# Altium integrated library RSX_ICs.IntLib: 15 symbols
Pins are listed as number, name and electrical type; pins without a type are passive.

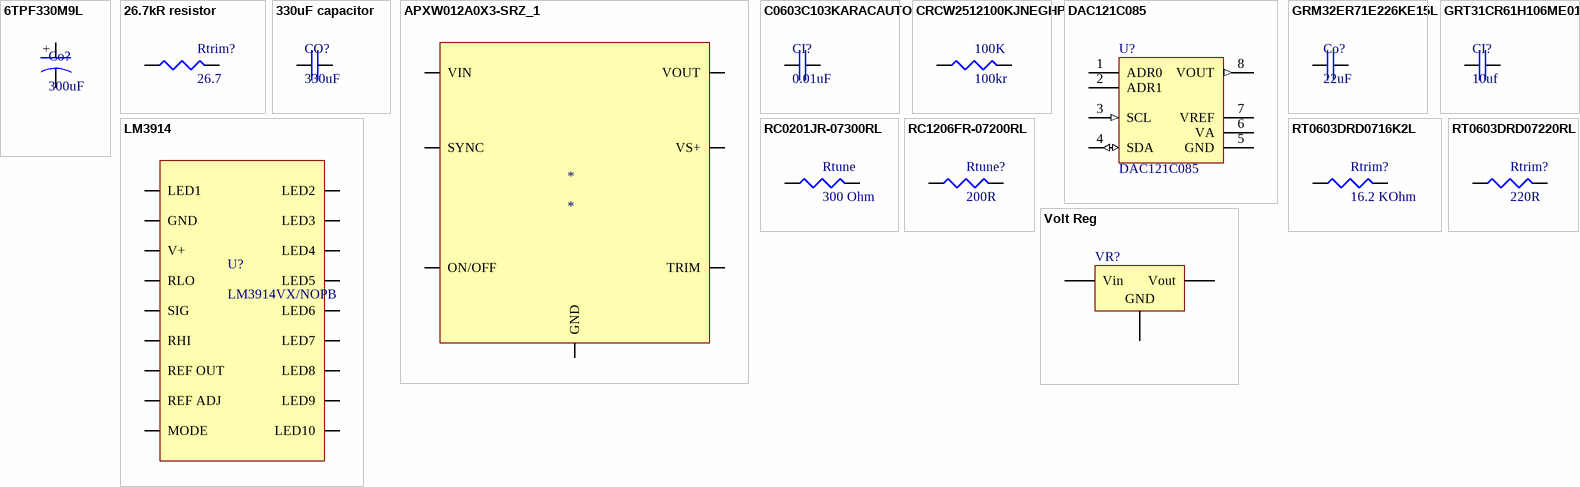
[diagram p0: symbols 6TPF330M9L to Volt Reg]

## 6TPF330M9L
designator Co?, comment 300uF
PANASONIC - 6TPF330M9L - CAP, TANT, POLYMER, 330UF, 6.3V/CASE D3L; Tolerance: 20%; ESR (Equivalent Series Resistance): 9mR; Polarity: Polar; Dissipation Factor: 10%; Voltage Rating: 6.3V; Ripple Current: 3.9A; Leakage Current: 207.9uA; Supplier 1: Digi-Key; Supplier Part Number 1: P16258CT-ND; Manufacturer 1: Panasonic; Manufacturer Part Number 1: 6TPF330M9L; Stock 1: 31667; Pricing 1: 1=2,38000, 10=1,92600, 100=1,47070, 500=1,12056, 1000=1,01551 (USD); RoHS: Yes; Mount: Surface Mount; Case/Package: 2917; Case Code (Metric): 7343; Case Code (Imperial): 2917; Material: Polymer; Min Operating Temperature: -55°C; Max Operating Temperature: 105°C; Capacitance: 330uF; Packaging: Tape and Reel; Package Quantity: 2500; Voltage Rating (DC): 6.3V; Termination: SMD/SMT; Voltage: 6.3V; Features: General Purpose; Length: 7.3mm; Height: 2.8mm; Depth: 4.3mm; Width: 4.3mm; Height - Seated (Max): 0.118inch; Radiation Hardening: No; REACH SVHC: No SVHC; Lead Free: Lead Free; ComponentLink1URL: https://datasheet.ciiva.com/26840/getdatasheetpartid-733767-26840943.pdf?src-supplier=Verical; ComponentLink1Description: https://datasheet.ciiva.com/26840/getdatasheetpartid-733767-26840943.pdf?src-supplier=Verical; ComponentLink2URL: https://datasheet.ciiva.com/48675/aaa8000ce10-48675031.pdf?src-supplier=Avnet; ComponentLink2Description: https://datasheet.ciiva.com/48675/aaa8000ce10-48675031.pdf?src-supplier=Avnet; ComponentLink3URL: https://datasheet.ciiva.com/24450/e100-24450360.pdf?src-supplier=Onlinecomponents.com; ComponentLink3Description: https://datasheet.ciiva.com/24450/e100-24450360.pdf?src-supplier=Onlinecomponents.com; ComponentLink4URL: https://datasheet.ciiva.com/25786/1734364-25786126.pdf?src-supplier=Farnell; ComponentLink4Description: https://datasheet.ciiva.com/25786/1734364-25786126.pdf?src-supplier=Farnell; ComponentLink5URL: https://datasheet.ciiva.com/41442/001179781-da-01-en-tantal-kond-6-3vdc-330uf-9mr-734328-41442556.pdf?src-supplier=Conrad; ComponentLink5Description: https://datasheet.ciiva.com/41442/001179781-da-01-en-tantal-kond-6-3vdc-330uf-9mr-734328-41442556.pdf?src-supplier=Conrad; Category: Capacitor
pins: 14, +

## 26.7kR resistor
designator Rtrim?, comment 26.7
RES 26.7K OHM 0.6W 1% AXIAL; Manufacturer 1: Vishay BCcomponents; Manufacturer Part Number 1: MRS25000C2672FRP00; Resistance: 26.7kR; Power Rating: 600mW; Temperature Coefficient: 50ppm/°C; Voltage Rating: 350V; Lead Diameter: 0.6mm; Supplier 1: Digi-Key; Supplier Part Number 1: PPC26.7KZCT-ND; Stock 1: 9256; Pricing 1: 1=0,29000, 10=0,24200, 25=0,17600, 50=0,12760, 100=0,09460, 250=0,07260, 500=0,05720, 1000=0,03960 (USD); RoHS: Yes; Mount: Through Hole; Case/Package: Axial; Contact Plating: Tin; Min Operating Temperature: -55°C; Max Operating Temperature: 155°C; Tolerance: 1%; Package Quantity: 1; Packaging: Tape and Reel; Termination: Axial; Composition: Thin Film,Metal Film; Number of Terminations: 2; Max Power Dissipation: 600mW; Diameter: 2.5mm; Length: 6.5mm; Width: 2.5mm; Radiation Hardening: No; Lead Free: Lead Free; ComponentLink1URL: https://datasheet.ciiva.com/2710/mrs16m25-2710936.pdf?src-supplier=Digi-Key; ComponentLink1Description: https://datasheet.ciiva.com/2710/mrs16m25-2710936.pdf?src-supplier=Digi-Key; ComponentLink2URL: https://datasheet.ciiva.com/2710/mrs16m25-2710937.pdf?src-supplier=Digi-Key; ComponentLink2Description: https://datasheet.ciiva.com/2710/mrs16m25-2710937.pdf?src-supplier=Digi-Key; ComponentLink3URL: https://datasheet.ciiva.com/8399/mrs16m25-8399150.pdf?src-supplier=Avnet; ComponentLink3Description: https://datasheet.ciiva.com/8399/mrs16m25-8399150.pdf?src-supplier=Avnet
pins: 11, 12

## 330uF capacitor
designator CO?, comment 330uF
MURATA - GRM32ER60E337ME05L - CAP, 330µF, 2.5V, 20%, X5R, 1210; Supplier 1: Digi-Key; Supplier Part Number 1: 490-13974-1-ND; Manufacturer 1: Murata; Manufacturer Part Number 1: GRM32ER60E337ME05L; Stock 1: 5051; Pricing 1: 1=2,08000, 10=1,67800, 100=1,28160, 500=0,97648 (USD); RoHS: Yes; Mount: Surface Mount; Case/Package: 1210; Case Code (Metric): 3225; Case Code (Imperial): 1210; Min Operating Temperature: -55°C; Max Operating Temperature: 85°C; Packaging: Tape and Reel; Capacitance: 330uF; Voltage Rating: 2.5V; Tolerance: 20%; Voltage Rating (DC): 2.5V; Dielectric: X5R; Length: 0.126inch; Width: 0.098inch; Thickness: 0.11inch; ComponentLink1URL: http://www.farnell.com/datasheets/2165383.pdf?src-supplier=Farnell; ComponentLink1Description: http://www.farnell.com/datasheets/2165383.pdf?src-supplier=Farnell; ComponentLink2URL: http://search.murata.co.jp/Ceramy/image/img/A01X/partnumbering_e_01.pdf?src-supplier=Digi-Key; ComponentLink2Description: http://search.murata.co.jp/Ceramy/image/img/A01X/partnumbering_e_01.pdf?src-supplier=Digi-Key; ComponentLink3URL: http://search.murata.co.jp/Ceramy/image/img/A01X/G101/ENG/GRM32ER60E337ME05-01.pdf?src-supplier=Digi-Key; ComponentLink3Description: http://search.murata.co.jp/Ceramy/image/img/A01X/G101/ENG/GRM32ER60E337ME05-01.pdf?src-supplier=Digi-Key; Category: Capacitor
pins: 15, 16

## APXW012A0X3-SRZ_1
designator *
DC DC CONVERTER 3-18V 12A; Manufacturer 1: GE; Manufacturer Part Number 1: APXW012A0X3-SRZ; Number of Outputs: 1; Min Input Voltage: 9V; Max Input Voltage: 36V; Voltage - Output 1: 18V; Efficiency: 95.5%; Supplier 1: Avnet; Supplier Part Number 1: 150028492; Stock 1: 0; RoHS: Yes; Mount: Surface Mount; Case/Package: Module; Number of Pins: 9; Min Operating Temperature: -40°C; Max Operating Temperature: 85°C; Packaging: Tape and Reel; Max Output Current: 12A; Current - Output 1: 12A; Package Quantity: 140; Output Current: 12A; Output Voltage: 18V; Features: OCP,OTP; Length: 1.3inch; Height: 0.39inch; Width: 0.53inch; ComponentLink1URL: http://apps.geindustrial.com/publibrary/checkout/DS-APXW012?TNR=Data%20Sheets&src-supplier=Avnet; ComponentLink1Description: http://apps.geindustrial.com/publibrary/checkout/DS-APXW012?TNR=Data%20Sheets&src-supplier=Avnet; ComponentLink2URL: http://apps.geindustrial.com/publibrary/checkout/DS-APXW012?TNR=Data%20Sheets|DS-APXW012|generic&src-supplier=Digi-Key; ComponentLink2Description: http://apps.geindustrial.com/publibrary/checkout/DS-APXW012?TNR=Data%20Sheets|DS-APXW012|generic&src-supplier=Digi-Key; ComponentLink3URL: http://apps.geindustrial.com/publibrary/checkout/DS-APXW012?TNR=Data%20Sheets%7CDS-APXW012%7Cgeneric&src-supplier=Mouser; ComponentLink3Description: http://apps.geindustrial.com/publibrary/checkout/DS-APXW012?TNR=Data%20Sheets%7CDS-APXW012%7Cgeneric&src-supplier=Mouser; Category: Buck Converter
pins: 4 VIN, 5 SYNC, 6 ON/OFF, 7 VOUT, 8 VS+, 9 TRIM, 10 GND

## C0603C103KARACAUTO
designator CI?, comment 0.01uF
Cap Ceramic 0.01uF 250V X7R 10% Pad SMD 0603 125C Automotive T/R; Manufacturer 1: KEMET; Manufacturer Part Number 1: C0603C103KARACAUTO; Capacitance: 10nF; Supplier 1: Digi-Key; Supplier Part Number 1: 399-17960-1-ND; Stock 1: 8483; Pricing 1: 1=0,90000, 10=0,68500, 100=0,49040, 500=0,37964, 1000=0,32691 (USD); RoHS: No; Mount: Surface Mount; Case/Package: 0603; Case Code (Imperial): 0603; Case Code (Metric): 1608; Min Operating Temperature: -55°C; Max Operating Temperature: 125°C; Packaging: Tape and Reel; Tolerance: 10%; Voltage Rating: 250V; Ratings: AEC-Q200; ComponentLink1URL: https://api.kemet.com/component-edge/download/datasheet/C0603C103KARACAUTO.pdf?src-supplier=Digi-Key; ComponentLink1Description: https://api.kemet.com/component-edge/download/datasheet/C0603C103KARACAUTO.pdf?src-supplier=Digi-Key; Category: Capacitor
pins: 15, 16

## CRCW2512100KJNEGHP
designator 100K, comment 100kr
RES SMD 100K OHM 5% 1.5W 2512; Manufacturer 1: Vishay Dale; Manufacturer Part Number 1: CRCW2512100KJNEGHP; Voltage Rating: 500V; Temperature Coefficient: 200ppm/°C; Supplier 1: Digi-Key; Supplier Part Number 1: 541-100KRACT-ND; Stock 1: 229705; Pricing 1: 1=0,75000, 10=0,55200, 100=0,32130, 1000=0,18016 (USD); RoHS: Yes; Case/Package: 2512; Weight: 0.001482oz; Case Code (Metric): 6432; Case Code (Imperial): 2512; Contact Plating: Tin; Min Operating Temperature: -55°C; Max Operating Temperature: 155°C; Power Rating: 1.5W; Tolerance: 5%; Resistance: 100kR; Packaging: Tape and Reel; Package Quantity: 1; Composition: Thick Film; Number of Terminations: 2; Termination: SMD/SMT; Max Power Dissipation: 1.5W; Features: Automotive AEC-Q200; Length: 0.248inch; Height: 0.028inch; Width: 0.124inch; Radiation Hardening: No; Lead Free: Lead Free; ComponentLink1URL: https://datasheet.ciiva.com/2483/crcwhpe3-2483163.pdf?src-supplier=Digi-Key; ComponentLink1Description: https://datasheet.ciiva.com/2483/crcwhpe3-2483163.pdf?src-supplier=Digi-Key; ComponentLink2URL: https://datasheet.ciiva.com/2483/crcwhpe3-2483164.pdf?src-supplier=Digi-Key; ComponentLink2Description: https://datasheet.ciiva.com/2483/crcwhpe3-2483164.pdf?src-supplier=Digi-Key; ComponentLink3URL: https://datasheet.ciiva.com/5545/crcwhpe3-46056-5545996.pdf?src-supplier=Mouser; ComponentLink3Description: https://datasheet.ciiva.com/5545/crcwhpe3-46056-5545996.pdf?src-supplier=Mouser; ComponentLink4URL: https://datasheet.ciiva.com/8982/crcwhpe3-8982492.pdf?src-supplier=Avnet; ComponentLink4Description: https://datasheet.ciiva.com/8982/crcwhpe3-8982492.pdf?src-supplier=Avnet; ComponentLink5URL: https://datasheet.ciiva.com/2483/crcwhpe3-2483165.pdf?src-supplier=Digi-Key; ComponentLink5Description: https://datasheet.ciiva.com/2483/crcwhpe3-2483165.pdf?src-supplier=Digi-Key; Category: Resistor
pins: 11, 12

## DAC121C085
designator U?
12-Bit Micro Power Digital-to-Analog Converter with an I2C-Compatible Interface and External Reference, 8-pin Mini SOIC, Pb-Free; Manufacturer: National Semiconductor; PackageTopMarking: XTT*X90C; PowerWise: Y; CompType: D/A Converter; ComponentLink3URL: http://www.national.com/packaging/folders/mua08a.html; ComponentLink2URL: http://www.national.com/pf/DA/DAC121C085.html; Code_JEDEC: MO-187-AA; ComponentLink1URL: http://www.national.com/ds/DA/DAC121C085.pdf; RoHS: Y; PackageVersion: revF, Apr-2008; PackageDescription: MINI SOIC, .118 x .118 x .034in, 8 Lead, .0256in Pitch; PackageReference: MUA08A; PinCount: 8; DatasheetVersion: Mar-2008; ComponentLink1Description: DAC121C085 Datasheet; ComponentLink2Description: DAC121C085 Web Page; ComponentLink3Description: MUA08A Package Page; RevisionNote: Component URLs added
footprint MUA08A_L (TSOP, 8-Leads, Body 3x3mm, Pitch 0.65mm, IPC High Density)
pins: 1 ADR0 (hiz), 2 ADR1 (hiz), 3 SCL (in), 4 SDA (io), 5 GND (power), 6 VA (power), 7 VREF (power), 8 VOUT (out)

## GRM32ER71E226KE15L
designator Co?, comment 22uF
Cap Ceramic 22uF 25V X7R 10% SMD 1210 125C Embossed T/R; Manufacturer 1: Murata; Manufacturer Part Number 1: GRM32ER71E226KE15L; Supplier 1: Digi-Key; Supplier Part Number 1: 490-5313-6-ND; Stock 1: 52660; Pricing 1: 1=1,78000, 10=1,40600, 100=1,05410, 500=0,79646 (USD); RoHS: Yes; Mount: Surface Mount; Case/Package: 1210; Number of Pins: 2; Case Code (Metric): 3225; Case Code (Imperial): 1210; Material: Ceramic; Min Operating Temperature: -55°C; Max Operating Temperature: 125°C; Capacitance: 22uF; Tolerance: 10%; Dielectric: X7R; Voltage Rating: 25V; Packaging: Tape and Reel; Package Quantity: 1; Voltage Rating (DC): 25V; Termination: SMD/SMT; Voltage: 25V; Length: 3.2mm; Height: 2.5mm; Width: 0.098inch; Thickness: 0.106inch; Depth: 2.5mm; Radiation Hardening: No; REACH SVHC: No SVHC; Lead Free: Lead Free; ComponentLink1URL: https://datasheet.ciiva.com/6072/1697714-6072768.pdf?src-supplier=Farnell; ComponentLink1Description: https://datasheet.ciiva.com/6072/1697714-6072768.pdf?src-supplier=Farnell; ComponentLink2URL: https://datasheet.ciiva.com/16497/product-16497009.pdf?src-supplier=Future+Electronics; ComponentLink2Description: https://datasheet.ciiva.com/16497/product-16497009.pdf?src-supplier=Future+Electronics; ComponentLink3URL: https://datasheet.ciiva.com/3776/2741grm32er71e226ke1523-3776996.pdf?src-supplier=Arrow; ComponentLink3Description: https://datasheet.ciiva.com/3776/2741grm32er71e226ke1523-3776996.pdf?src-supplier=Arrow; ComponentLink4URL: https://datasheet.ciiva.com/11789/0900766b80ef921d-11789129.pdf?src-supplier=RSComponents; ComponentLink4Description: https://datasheet.ciiva.com/11789/0900766b80ef921d-11789129.pdf?src-supplier=RSComponents; ComponentLink5URL: https://datasheet.ciiva.com/29201/451826-da-01-de-vs-kondens-grm32-er71e-226ke15l-29201795.pdf?src-supplier=Conrad; ComponentLink5Description: https://datasheet.ciiva.com/29201/451826-da-01-de-vs-kondens-grm32-er71e-226ke15l-29201795.pdf?src-supplier=Conrad; ComponentLink6URL: https://datasheet.ciiva.com/175/partnumbering-e-01-175746.pdf?src-supplier=Digi-Key; ComponentLink6Description: https://datasheet.ciiva.com/175/partnumbering-e-01-175746.pdf?src-supplier=Digi-Key; ComponentLink7URL: https://datasheet.ciiva.com/175/partnumbering-e-01-175747.pdf?src-supplier=Digi-Key; ComponentLink7Description: https://datasheet.ciiva.com/175/partnumbering-e-01-175747.pdf?src-supplier=Digi-Key; ComponentLink8URL: https://datasheet.ciiva.com/175/partnumbering-e-01-175748.pdf?src-supplier=Digi-Key; ComponentLink8Description: https://datasheet.ciiva.com/175/partnumbering-e-01-175748.pdf?src-supplier=Digi-Key; ComponentLink9URL: https://datasheet.ciiva.com/22703/1697714-22703397.pdf?src-supplier=Element14; ComponentLink9Description: https://datasheet.ciiva.com/22703/1697714-22703397.pdf?src-supplier=Element14; Category: Capacitor
pins: 15, 16

## GRT31CR61H106ME01L
designator CI?, comment 10uf
CAP CER 10UF 50V X5R 1206; Manufacturer 1: Murata; Manufacturer Part Number 1: GRT31CR61H106ME01L; Tolerance: 20%; Supplier 1: Digi-Key; Supplier Part Number 1: 490-12457-1-ND; Stock 1: 8159; Pricing 1: 1=0,50000, 10=0,34900, 100=0,20920, 500=0,15690, 1000=0,13249 (USD); RoHS: Yes; Mount: Surface Mount; Case/Package: 1206; Case Code (Metric): 3216; Case Code (Imperial): 1206; Min Operating Temperature: -55°C; Max Operating Temperature: 85°C; Packaging: Tape and Reel; Capacitance: 10uF; Voltage Rating: 50V; Length: 0.126inch; Width: 0.063inch; Thickness: 0.071inch; Ratings: AEC-Q200; ComponentLink1URL: http://search.murata.co.jp/Ceramy/image/img/A01X/G101/ENG/GRT31CR61H106ME01-01.pdf?src-supplier=Digi-Key; ComponentLink1Description: http://search.murata.co.jp/Ceramy/image/img/A01X/G101/ENG/GRT31CR61H106ME01-01.pdf?src-supplier=Digi-Key; Category: Capacitor
pins: 15, 16

## LM3914
designator U?, comment LM3914VX/NOPB
footprint PLCC127P990X990X457-20N (Leaded Chip Carrier, 20-Leads, Body 9.91x9.91mm, Pitch 1.270mm, IPC Medium Density)
pins: 1 LED1, 2 GND, 3 V+, 4 RLO, 5 SIG, 6 RHI, 7 REF OUT, 8 REF ADJ, 9 MODE, 10 LED10, 11 LED9, 12 LED8, 13 LED7, 14 LED6, 15 LED5, 16 LED4, 17 LED3, 18 LED2

## RC0201JR-07300RL
designator Rtune, comment 300 Ohm
RES SMD 300 OHM 5% 1/20W 0201; Manufacturer 1: Yageo; Manufacturer Part Number 1: RC0201JR-07300RL; Resistance: 300R; Power Rating: 50mW; Voltage Rating: 25V; Temperature Coefficient: 200ppm/°C; Supplier 1: Digi-Key; Supplier Part Number 1: 311-300NCT-ND; Stock 1: 301034; Pricing 1: 1=0,10000, 10=0,02800, 100=0,01150, 1000=0,00517, 2500=0,00448, 5000=0,00371 (USD); RoHS: Yes; Case/Package: 0201; Case Code (Imperial): 0201; Case Code (Metric): 0603; Min Operating Temperature: -55°C; Max Operating Temperature: 125°C; Tolerance: 5%; Packaging: Tape and Reel; Termination: SMD/SMT; Composition: Thick Film; Military Standard: Not; Length: 0.6mm; Height: 0.23mm; Width: 0.3mm; Depth: 0.3mm; Lead Free: Lead Free; ComponentLink1URL: http://www.mouser.com/ds/2/447/RC0201-559633.pdf?src-supplier=Mouser; ComponentLink1Description: http://www.mouser.com/ds/2/447/RC0201-559633.pdf?src-supplier=Mouser; ComponentLink2URL: http://components.arrow.com/part/dataview/0323_03295127?src-supplier=Arrow+Europe; ComponentLink2Description: http://components.arrow.com/part/dataview/0323_03295127?src-supplier=Arrow+Europe; ComponentLink3URL: http://www.yageo.com/documents/recent/PYu-RC0201_51_RoHS_L_(8).pdf?src-supplier=Future+Electronics; ComponentLink3Description: http://www.yageo.com/documents/recent/PYu-RC0201_51_RoHS_L_(8).pdf?src-supplier=Future+Electronics; ComponentLink4URL: http://www.yageo.com/documents/recent/PYu-RC_Group_51_RoHS_L_10.pdf?src-supplier=Digi-Key; ComponentLink4Description: http://www.yageo.com/documents/recent/PYu-RC_Group_51_RoHS_L_10.pdf?src-supplier=Digi-Key; ComponentLink5URL: http://www.yageo.com/documents/recent/PYu-RC_Group_51_RoHS_L_9.pdf?src-supplier=Digi-Key; ComponentLink5Description: http://www.yageo.com/documents/recent/PYu-RC_Group_51_RoHS_L_9.pdf?src-supplier=Digi-Key; Category: Resistors
pins: 11, 12

## RC1206FR-07200RL
designator Rtune?, comment 200R
RES SMD 200 OHM 1% 1/4W 1206; Manufacturer 1: Yageo; Manufacturer Part Number 1: RC1206FR-07200RL; Temperature Coefficient: 100ppm/°C; Voltage Rating (DC): 200V; Power Rating: 250mW; Supplier 1: Digi-Key; Supplier Part Number 1: 311-200FRCT-ND; Stock 1: 3032350; Pricing 1: 1=0,10000, 10=0,07100, 100=0,02910, 1000=0,01306, 2500=0,01134 (USD); RoHS: Yes; Mount: Surface Mount; Case/Package: 1206; Weight: 0.000571oz; Case Code (Imperial): 1206; Case Code (Metric): 3216; Min Operating Temperature: -55°C; Max Operating Temperature: 155°C; Tolerance: 1%; Resistance: 200R; Packaging: Tape and Reel; Composition: Thick Film; Voltage Rating: 200V; Termination: SMD/SMT; Military Standard: Not; Length: 3.1mm; Height: 0.55mm; Width: 1.6mm; Depth: 1.6mm; Lead Free: Lead Free; ComponentLink1URL: https://datasheet.ciiva.com/11808/0900766b80c6630a-11808603.pdf?src-supplier=RSComponents; ComponentLink1Description: https://datasheet.ciiva.com/11808/0900766b80c6630a-11808603.pdf?src-supplier=RSComponents; Category: Resistor
pins: 11, 12

## RT0603DRD0716K2L
designator Rtrim?, comment 16.2 KOhm
RES SMD 16.2KOHM 0.5% 1/10W 0603; Manufacturer 1: Yageo; Manufacturer Part Number 1: RT0603DRD0716K2L; Resistance: 16.2kR; Max Power Dissipation: 100mW; Temperature Coefficient: 25ppm/°C; Voltage Rating (DC): 50V; Supplier 1: Digi-Key; Supplier Part Number 1: 311-16.2KDCT-ND; Stock 1: 8163; Pricing 1: 1=0,20000, 10=0,16800, 100=0,06570, 1000=0,02750, 2500=0,02521 (USD); RoHS: Yes; Case/Package: 0603; Case Code (Metric): 1608; Case Code (Imperial): 0603; Min Operating Temperature: -55°C; Max Operating Temperature: 155°C; Package Quantity: 1; Tolerance: 0.5%; Packaging: Tape and Reel; Composition: Thin Film; Number of Terminations: 2; Features: Moisture Resistant; Length: 0.063inch; Height: 0.022inch; Width: 0.031inch; Lead Free: Lead Free; ComponentLink1URL: http://www.yageo.com/documents/recent/PYu-RT_1-to-0.01_RoHS_L_8.pdf?src-supplier=Digi-Key; ComponentLink1Description: http://www.yageo.com/documents/recent/PYu-RT_1-to-0.01_RoHS_L_8.pdf?src-supplier=Digi-Key; Category: Resistors
pins: 11, 12

## RT0603DRD07220RL
designator Rtrim?, comment 220R
RES SMD 220 OHM 0.5% 1/10W 0603; Manufacturer 1: Yageo; Manufacturer Part Number 1: RT0603DRD07220RL; Max Power Dissipation: 100mW; Temperature Coefficient: 25ppm/°C; Voltage Rating (DC): 50V; Supplier 1: Digi-Key; Supplier Part Number 1: 311-220DCT-ND; Stock 1: 5545; Pricing 1: 1=0,20000, 10=0,16800, 100=0,06570, 1000=0,02750, 2500=0,02521 (USD); RoHS: Yes; Case/Package: 0603; Case Code (Metric): 1608; Case Code (Imperial): 0603; Min Operating Temperature: -55°C; Max Operating Temperature: 155°C; Package Quantity: 5000; Resistance: 220R; Tolerance: 0.5%; Packaging: Tape and Reel; Composition: Thin Film; Number of Terminations: 2; Features: Moisture Resistant; Length: 0.063inch; Height: 0.022inch; Width: 0.031inch; Lead Free: Lead Free; ComponentLink1URL: http://www.yageo.com/documents/recent/PYu-RT_1-to-0.01_RoHS_L_9.pdf?src-supplier=Digi-Key; ComponentLink1Description: http://www.yageo.com/documents/recent/PYu-RT_1-to-0.01_RoHS_L_9.pdf?src-supplier=Digi-Key; ComponentLink2URL: http://www.yageo.com/documents/recent/PYu-RT_1-to-0.01_RoHS_L_8.pdf?src-supplier=Digi-Key; ComponentLink2Description: http://www.yageo.com/documents/recent/PYu-RT_1-to-0.01_RoHS_L_8.pdf?src-supplier=Digi-Key; Category: Resistors
pins: 11, 12

## Volt Reg
designator VR?
Voltage Regulator; Published: 24-Mar-1999; LatestRevisionDate: 29-May-2009; LatestRevisionNote: IPC-7351 Footprint Added.; PackageReference: D2PAK; Publisher: Altium Limited; PackageDescription: 3-Pin Transistor Outline Package 2.54 mm Pitch, 15.1 mm Lead Span
footprint DPAK254P1420X457-3N (D2-PAK, 3-Pads, Body 7.77x8.48mm (max), IPC Medium Density)
pins: 1 Vin, 2 GND, 3 Vout